# EAGLE library part BQ2057X (library launchpad_bp)
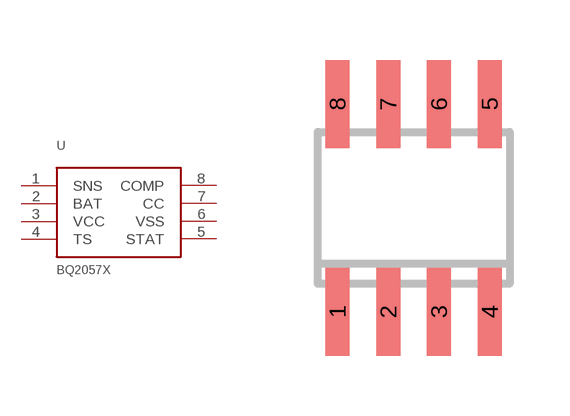
[diagram p8: symbol with the pads of SOIC8; footprint SOIC8]

Designator prefix -

## BQ2057X  [SOIC8]
1  SNS  pas
2  BAT  pas
3  VCC  pwr
4  TS  pas
5  STAT  out
6  VSS  pwr
7  CC  out
8  COMP  pas

## Footprint SOIC8 (pad centres in mm)
Small Outline IC
smd 0.6 x 2.2: 1 -1.905,-2.6; 2 -0.635,-2.6; 3 0.635,-2.6; 4 1.905,-2.6; 5 1.905,2.6; 6 0.635,2.6; 7 -0.635,2.6; 8 -1.905,2.6